# Altium schematic symbol library abracon_xtal.SchLib: 4 symbols
Pins are listed as number, name and electrical type; pins without a type are passive.

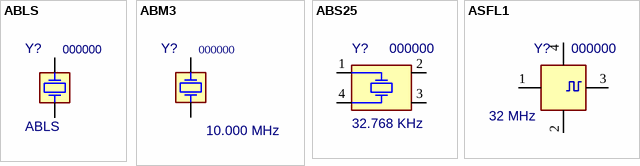
[diagram p0: symbols ABLS to ASFL1]

## ABLS
designator Y?, comment 000000  value ABLS
HC/49US (AT49) SMD Low Profile Crystal; PN: 000000; Package: HC/49US; ExtraInfo: *
footprint HC/49US (SMD Low Profile Crystal)
pins: 1, 2

## ABM3
designator Y?, comment 000000  value 10.000 MHz
Miniature Ceramic SMD Crystal; MF: Abracon; Package: ABM3; PN: 000000
footprint ABM3-H (Miniature Ceramic SMD Crystal 5.0 X 3.2 X 1.3)
footprint ABM3-M (Miniature Ceramic SMD Crystal 5.0 X 3.2 X 1.3, Medium Density)
pins: 1, 2

## ABS25
designator Y?, comment 000000  value 32.768 KHz
SMD Low Frequency Crystal; MF: Abracon; ExtraInfo: *; PN: 000000; Package: 4-SOJ
footprint ABS25 (Low Profile, Heat Resistant Plastic Package)
pins: 1, 2, 3, 4

## ASFL1
designator Y?, comment 000000  value 32 MHz
SMD Oscillator, 3.3V; MF PN: ASFL1-32.000MHZ-L-T; MF: Abracon; ExtraInfo: *; PN: 000000; Package: *
footprint ASFl1 (Low Profile Oscillator)
pins: 1 NC, 2 GND, 3, 4 VDD